# Altium schematic symbol library TCA9548APWR.SchLib: 1 symbol
Pins are listed as number, name and electrical type; pins without a type are passive.

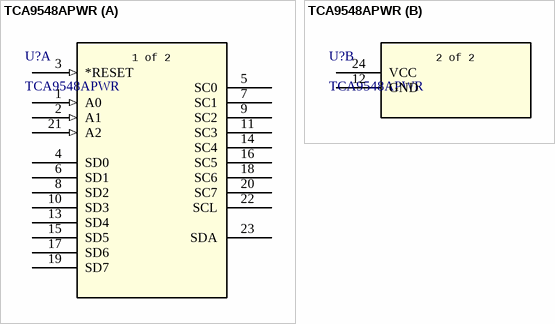
[diagram p0: symbol TCA9548APWR]

## TCA9548APWR
designator U?
8-channel 1.65- to 5.5-V I2C/SMBus switch with reset & voltage translation 24-TSSOP -40 to 85; Manufacturer_Name: Texas Instruments; Copyright: Copyright (C) 2025 Ultra Librarian. All rights reserved.; Manufacturer_Part_Number: TCA9548APWR; RefDes: RefDes; Type: Type
footprint PW24_TEX
part A pins: 1 A0 (in), 2 A1 (in), 3 *RESET (in), 4 SD0, 5 SC0, 6 SD1, 7 SC1, 8 SD2, 9 SC2, 10 SD3, 11 SC3, 13 SD4, 14 SC4, 15 SD5, 16 SC5, 17 SD6, 18 SC6, 19 SD7, 20 SC7, 21 A2 (in), 22 SCL, 23 SDA
part B pins: 12 GND (power), 24 VCC (power)
part A text: 1 of 2
part B text: 2 of 2